# Altium schematic symbol library SHT30-DIS-B.SchLib: 1 symbol
Pins are listed as number, name and electrical type; pins without a type are passive.

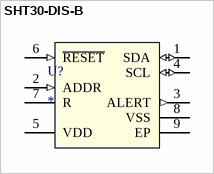
[diagram p0: symbol SHT30-DIS-B]

## SHT30-DIS-B
designator U?
pins: 1 SDA (io), 2 ADDR (in), 3 ALERT (out), 4 SCL (io), 5 VDD (power), 6 ~{RESET} (in), 7 R (power), 8 VSS (power), 9 EP (power)